# Altium schematic symbol library Switch_Omron_B3U-1000P-B_eec.SchLib: 1 symbol
Pins are listed as number, name and electrical type; pins without a type are passive.

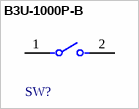
[diagram p0: symbol B3U-1000P-B]

## B3U-1000P-B
designator SW?  (value not drawn)
footprint Omron_0_MFG
pins: 1, 2